# EAGLE library part L3G4200D (library Compass)
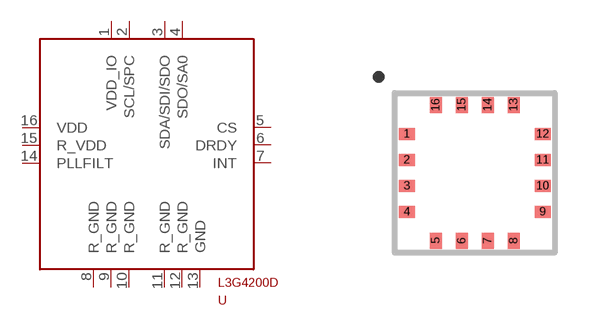
[diagram p1: symbol with the pads of LGA-16L(4X4X1.1); footprint LGA-16L(4X4X1.1)]

Designator prefix -

## L3G4200D  [LGA-16L(4X4X1.1)]
1  VDD_IO
2  SCL/SPC
3  SDA/SDI/SDO
4  SDO/SA0
5  CS
6  DRDY
7  INT
8  R_GND
9  R_GND
10  R_GND
11  R_GND
12  R_GND
13  GND
14  PLLFILT
15  R_VDD
16  VDD

## Footprint LGA-16L(4X4X1.1) (pad centres in mm)
smd 0.4 x 0.3: 1 -1.7,0.975; 2 -1.7,0.325; 3 -1.7,-0.325; 4 -1.7,-0.975; 9 1.7,-0.975; 10 1.7,-0.325; 11 1.7,0.325; 12 1.7,0.975
smd 0.3 x 0.4: 5 -0.975,-1.7; 6 -0.325,-1.7; 7 0.325,-1.7; 8 0.975,-1.7; 13 0.975,1.7; 14 0.325,1.7; 15 -0.325,1.7; 16 -0.975,1.7